# Altium footprint library TPS63024YFFR.PcbLib: 1 footprints
Each footprint in its own frame and in the unit in brackets; x right, y up, seen from the top. Pads: shape width x height; smd on the part's side, far side on the other; paste and mask are expansions set on the pad; w line width, h text height; cw(c..) or ccw(c..) is an arc to the next point about the centre after c.
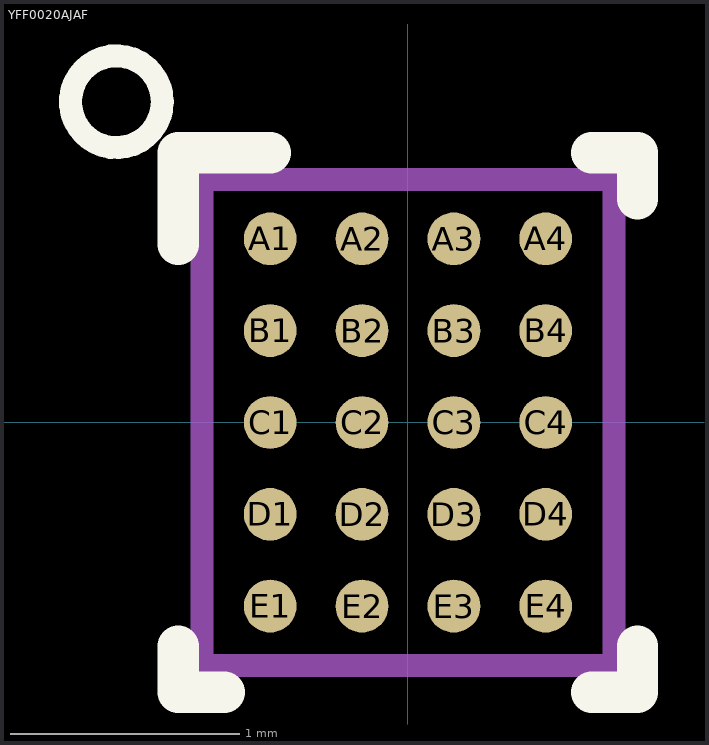
[diagram p0: the footprint, top view; thin cyan lines are the x and y axes]

## YFF0020AJAF [mm]
pads (20):
  round 0.23 smd paste-0.102 mask+0.038: A1(-0.6,0.8) A2(-0.2,0.8) A3(0.2,0.8) A4(0.6,0.8) B1(-0.6,0.4) B2(-0.2,0.4) B3(0.2,0.4) B4(0.6,0.4) C1(-0.6,0) C2(-0.2,0) C3(0.2,0) C4(0.6,0) D1(-0.6,-0.4) D2(-0.2,-0.4) D3(0.2,-0.4) D4(0.6,-0.4) E1(-0.6,-0.8) E2(-0.2,-0.8) E3(0.2,-0.8) E4(0.6,-0.8)
Top Overlay:
  circle w0.1: c-1.27,1.397 r0.2
  lines w0.18: -1,-0.975 -1,-1.175 -0.8,-1.175 ; -1,0.775 -1,1.175 -0.6,1.175 ; 0.8,-1.175 1,-1.175 1,-0.975 ; 0.8,1.175 1,1.175 1,0.975
Top Paste:
  drawing of 180 lines, arcs and shapes, not listed
Mechanical 13:
  lines w0.1: -0.898,-1.058 0.898,-1.058 0.898,1.058 -0.898,1.058 -0.898,-1.058
3D body: height 0.25, standoff 0, extent -0.889,-1.016 0.889,1.016